# Altium schematic symbol library AD9552.SchLib: 1 symbol
Pins are listed as number, name and electrical type; pins without a type are passive.

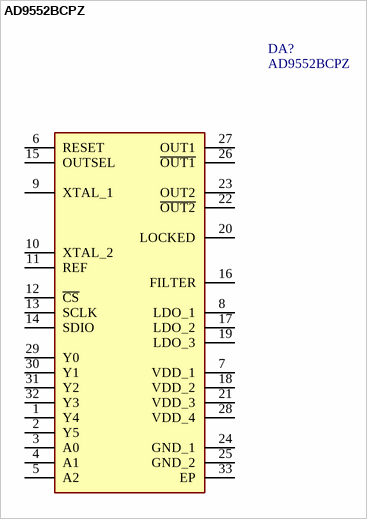
[diagram p0: symbol AD9552BCPZ]

## AD9552BCPZ
designator DA?
Integrated Circuit; Manufacturer_Name: Analog Devices; Datasheet Link: https://www.analog.com/media/en/technical-documentation/data-sheets/AD9552.pdf; Height: 0.8mm; Manufacturer_Part_Number: AD9552BCPZ; Mouser Part Number: 584-AD9552BCPZ; Mouser Price/Stock: https://www.mouser.co.uk/ProductDetail/Analog-Devices/AD9552BCPZ?qs=%2FtpEQrCGXCyMFaCeTojWlA%3D%3D; Arrow Part Number: AD9552BCPZ; Arrow Price/Stock: https://www.arrow.com/en/products/ad9552bcpz/analog-devices?utm_currency=USD&region=nac
footprint QFN50P500X500X80-33N-D
pins: 1 Y4, 2 Y5, 3 A0, 4 A1, 5 A2, 6 RESET, 7 VDD_1, 8 LDO_1, 9 XTAL_1, 10 XTAL_2, 11 REF, 12 ~{CS}, 13 SCLK, 14 SDIO, 15 OUTSEL, 16 FILTER, 17 LDO_2, 18 VDD_2, 19 LDO_3, 20 LOCKED, 21 VDD_3, 22 ~{OUT2}, 23 OUT2, 24 GND_1, 25 GND_2, 26 ~{OUT1}, 27 OUT1, 28 VDD_4, 29 Y0, 30 Y1, 31 Y2, 32 Y3, 33 EP